# Altium footprint library LSM6DS3.PcbLib: 1 footprints
Each footprint in its own frame and in the unit in brackets; x right, y up, seen from the top. Pads: shape width x height; smd on the part's side, far side on the other; paste and mask are expansions set on the pad; w line width, h text height; cw(c..) or ccw(c..) is an arc to the next point about the centre after c.
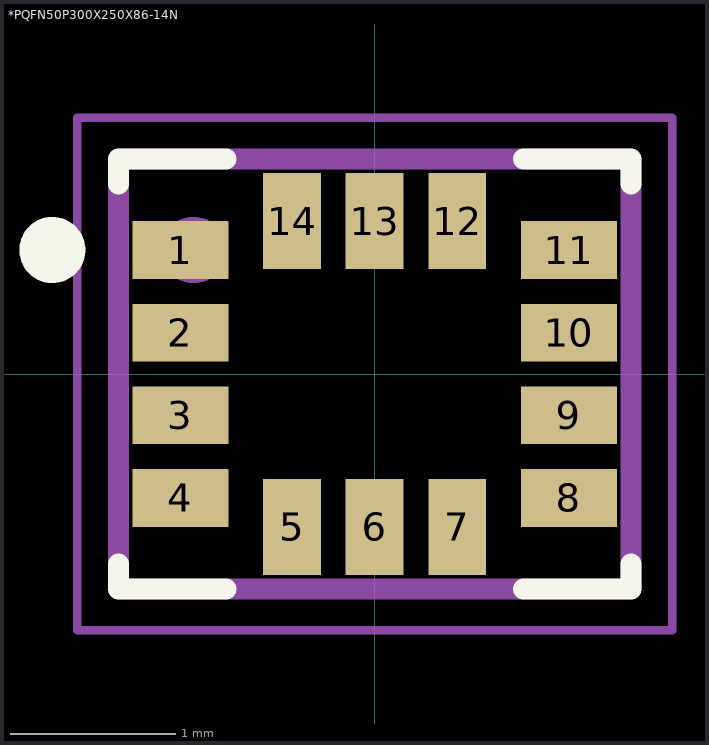
[diagram p0: the footprint, top view; thin cyan lines are the x and y axes]

## *PQFN50P300X250X86-14N [mm]
pads (14):
  rect 0.58x0.35 smd: 1(-1.175,0.75) 2(-1.175,0.25) 3(-1.175,-0.25) 4(-1.175,-0.75) 8(1.175,-0.75) 9(1.175,-0.25) 10(1.175,0.25) 11(1.175,0.75)
  rect 0.35x0.58 smd: 5(-0.5,-0.925) 6(0,-0.925) 7(0.5,-0.925) 12(0.5,0.925) 13(0,0.925) 14(-0.5,0.925)
Top Overlay:
  circle w0.2: c-1.95,0.75 r0.1
  lines w0.127: -1.55,-1.15 -1.55,-1.3 -0.9,-1.3 ; -1.55,1.15 -1.55,1.3 -0.9,1.3 ; 0.9,-1.3 1.55,-1.3 1.55,-1.15 ; 0.9,1.3 1.55,1.3 1.55,1.15
Mechanical 4:
  circle w0.2: c-1.095,0.75 r0.1
  circle w0.2: c-1.095,0.75 r0.1
  lines w0.127: -1.55,-1.3 1.55,-1.3 ; -1.55,-1.3 -1.55,1.3 ; -1.55,-1.3 1.55,-1.3 ; -1.55,-1.3 -1.55,1.3 ; -1.55,1.3 1.55,1.3 ; -1.55,1.3 1.55,1.3 ; 1.55,-1.3 1.55,1.3 ; 1.55,-1.3 1.55,1.3
Mechanical 16:
  lines w0.05: -1.8,-1.55 1.8,-1.55 1.8,1.55 -1.8,1.55 -1.8,-1.55